# EAGLE library part A11490 (library con-omnetics)
HEADER
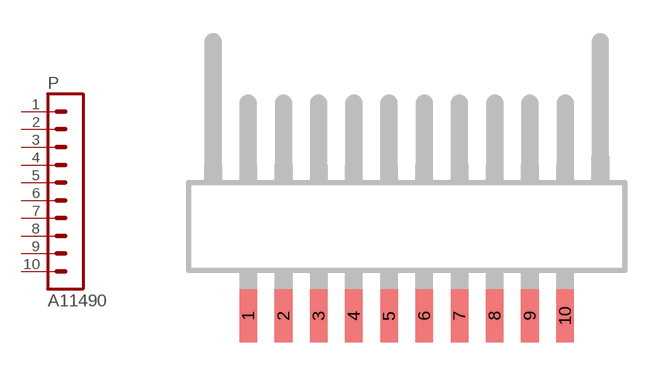
[diagram p15: symbol with the pads of A11490; footprint A11490]

Designator prefix P

## A11490 (P1: >)  [A11490]
1  1  pas
2  2  pas
3  3  pas
4  4  pas
5  5  pas
6  6  pas
7  7  pas
8  8  pas
9  9  pas
10  10  pas

## Footprint A11490 (pad centres in mm)
HEADER
smd 0.635 x 1.905: 1 -5.715,-1.651; 2 -4.445,-1.651; 3 -3.175,-1.651; 4 -1.905,-1.651; 5 -0.635,-1.651; 6 0.635,-1.651; 7 1.905,-1.651; 8 3.175,-1.651; 9 4.445,-1.651; 10 5.715,-1.651